# EAGLE library part MICROSD (library Komputronika-old)
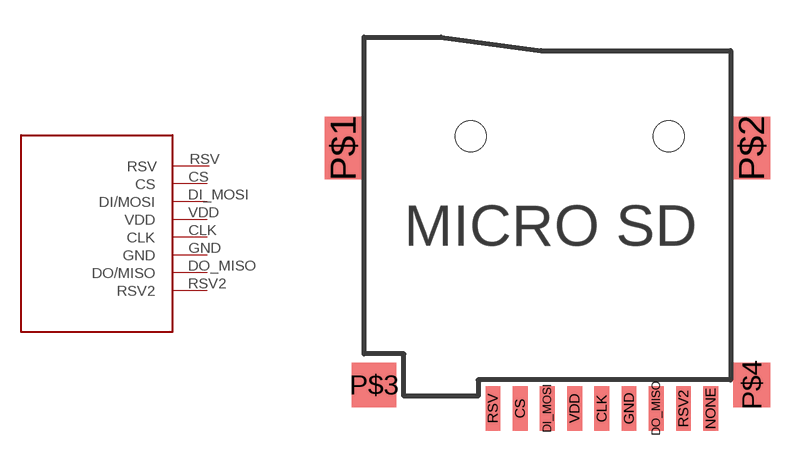
[diagram p12: symbol with the pads of MICROSDTF; footprint MICROSDTF]

Designator prefix -

## MICROSD  [MICROSDTF]
CLK  CLK
CS  CS
DI_MOSI  DI/MOSI
DO_MISO  DO/MISO
GND  GND
RSV  RSV
RSV2  RSV2
VDD  VDD

## Footprint MICROSDTF (pad centres in mm)
smd 0.6 x 1.8: CLK 2.2,-7.75; CS -1.1,-7.75; DI_MOSI 0,-7.75; DO_MISO 4.4,-7.75; GND 3.3,-7.75; NONE 6.6,-7.75; RSV -2.2,-7.75; RSV2 5.5,-7.75; VDD 1.1,-7.75
smd 1.5 x 2.54: P$1 -8.25,2.77; P$2 8.25,2.77
smd 1.8 x 1.8: P$3 -7,-6.8
smd 1.5 x 1.8: P$4 8.26,-6.8
hole 1.25 at -3.1,3.25
hole 1.25 at 4.9,3.25